# EAGLE library part INA219AIDCNR (library edrtech_lib)
TEXAS INSTRUMENTS - INA219AIDCNR - CURRENT/POWER MONITOR, SOT-23-8, FULL REEL Source: Datasheet <https://componentsearchengine.com/Datasheets/2/INA219AIDCNR.pdf>
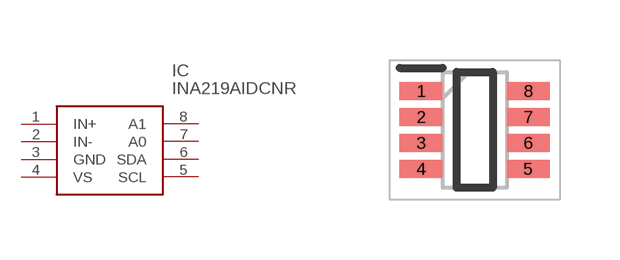
[diagram p42: symbol with the pads of SOP65P280X145-8N; footprint SOP65P280X145-8N]

Designator prefix IC

## INA219AIDCNR (ARROW_PART_NUMBER: INA219AIDCNR; ARROW_PRICE-STOCK: null?region=nac; DESCRIPTION: TEXAS INSTRUMENTS - INA219AIDCNR - CURRENT/POWER MONITOR, SOT-23-8, FULL REEL; HEIGHT: 1.45mm; MANUFACTURER_NAME: Texas Instruments; MANUFACTURER_PART_NUMBER: INA219AIDCNR; MOUSER_PART_NUMBER: 595-INA219AIDCNR; MOUSER_PRICE-STOCK: https://www.mouser.co.uk/ProductDetail/Texas-Instruments/INA219AIDCNR?qs=NNt36bEIu0tiHc879dL2eg%3D%3D)  [SOP65P280X145-8N]
1  IN+
2  IN-
3  GND
4  VS
5  SCL
6  SDA
7  A0
8  A1

## Footprint SOP65P280X145-8N (pad centres in mm)
INA219AIDCNR
smd 1.075 x 0.45: 1 -1.338,0.975; 2 -1.338,0.325; 3 -1.338,-0.325; 4 -1.338,-0.975; 5 1.338,-0.975; 6 1.338,-0.325; 7 1.338,0.325; 8 1.338,0.975